# EAGLE library part LM3080 (library wb-ota)
https://www.jameco.com/Jameco/Products/ProdDS/12116.pdf
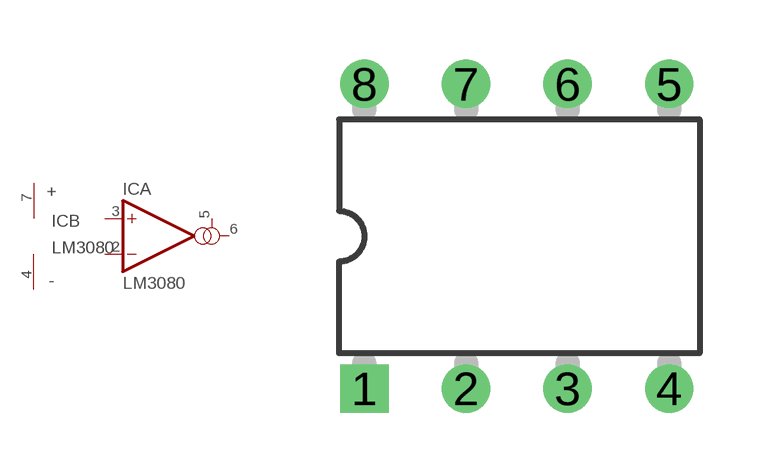
[diagram p3: symbol with the pads of DIL08; footprint DIL08]

Designator prefix IC; gates A=TYP-OTA B=TYP-PWR

## LM3080D  [DIL08]
2  A:INVERTING(-)  in
3  A:NON-INVERTING(+)  in
4  B:V-  pwr
5  A:I-BIAS  in
6  A:OUT  out
7  B:V+  pwr

## Footprint DIL08 (pad centres in mm)
drill 0.7 square: 1 -3.81,-3.81
drill 0.7: 2 -1.27,-3.81; 3 1.27,-3.81; 4 3.81,-3.81; 5 3.81,3.81; 6 1.27,3.81; 7 -1.27,3.81; 8 -3.81,3.81